# Altium footprint library QHL300300S28.PcbLib: 1 footprints
Each footprint in its own frame and in the unit in brackets; x right, y up, seen from the top. Pads: shape width x height; smd on the part's side, far side on the other; paste and mask are expansions set on the pad; w line width, h text height; cw(c..) or ccw(c..) is an arc to the next point about the centre after c.
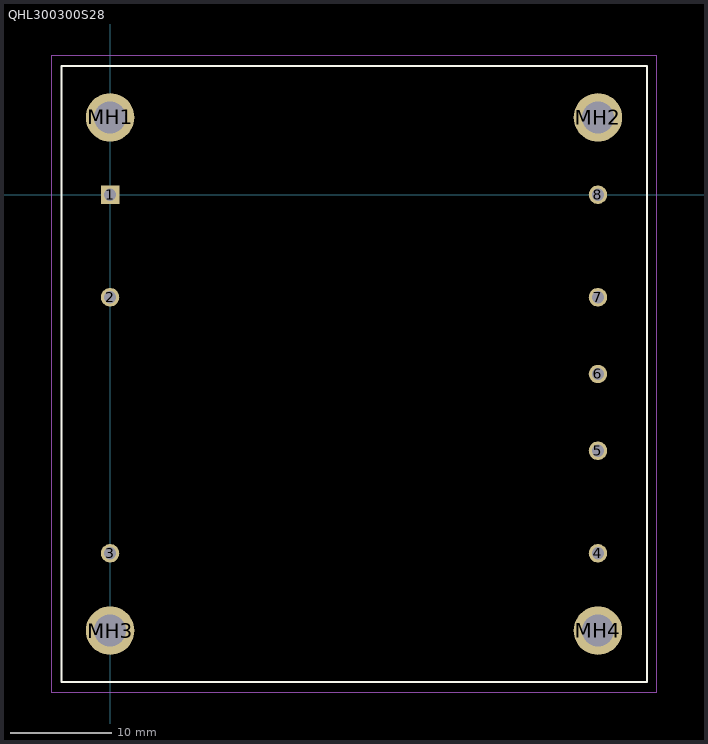
[diagram p0: the footprint, top view; thin cyan lines are the x and y axes]

## QHL300300S28 [mm]
pads (12):
  rect 1.83x1.83 hole 1.22: 1(0,0)
  round 1.83 hole 1.22: 2(0,-10.15) 3(0,-35.5) 4(48.3,-35.5) 5(48.3,-25.35) 6(48.3,-17.75) 7(48.3,-10.15) 8(48.3,0)
  round 4.8 hole 3.2: MH1(0,7.65) MH2(48.3,7.65) MH3(0,-43.15) MH4(48.3,-43.15)
Top Overlay:
  lines w0.2: -4.8,-48.25 53.15,-48.25 53.15,12.75 -4.8,12.75 -4.8,-48.25
Mechanical 15:
  lines w0.1: -4.8,-48.25 53.1,-48.25 53.1,12.75 -4.8,12.75 -4.8,-48.25
Mechanical 20:
  lines w0.1: -5.8,-49.25 54.1,-49.25 54.1,13.75 -5.8,13.75 -5.8,-49.25